# Altium schematic symbol library CONN_3P.Schlib: 1 symbol
Pins are listed as number, name and electrical type; pins without a type are passive.

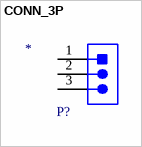
[diagram p0: symbol CONN_3P]

## CONN_3P
designator P?
Value: *
pins: 1, 2, 3 1